# EAGLE library part TLC591X-(Q1) (library isystems-power)
TLC591x-Q1 8-Bit Constant-Current LED Sink Drivers FEATURES Qualified for Automotive Applications AEC-Q100 Qualified With the Following Results: Device Temperature Grade 1: –40°C to 125°C Ambient Operating Temperature Range Device HBM ESD Classification Level 1C Device CDM ESD Classification Level C4 Eight Constant-Current Output Channels Output Current Adjusted Through External Resistor Constant Output Current Range: 5 mA to 120 mA Constant Output Current Invariant to Load Voltage Change Open Load, Short Load, and Overtemperature Detection 256-Step Programmable Global Current Gain Excellent Output Current Accuracy: Between Channels: ≤ ±3% (Maximum) Between ICs: ≤ ±6% (Maximum) Fast Response of Output Current 30-MHz Clock Frequency Schmitt Trigger Input 3.3-V or 5-V Supply Voltage Thermal Shutdown for Overtemperature Protection Datasheet: http://www.ti.com/lit/ds/slvs814a/slvs814a.pdf
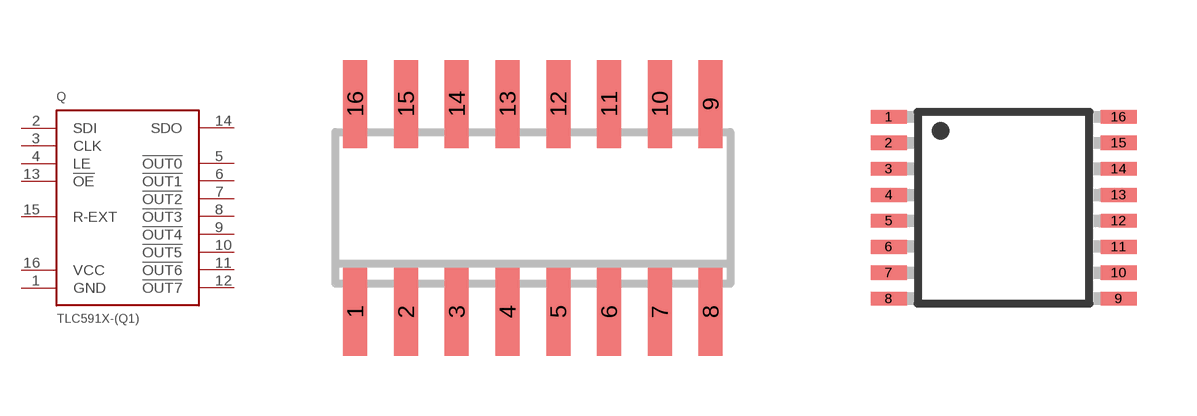
[diagram p0: symbol with the pads of SO16; footprints SO16, TSSOP16]

Designator prefix Q

## TLC591X-(Q1)IDR  [SO16]
1  GND  pwr
2  SDI  in
3  CLK  in
4  LE  in
5  !OUT0  out
6  !OUT1  out
7  !OUT2  out
8  !OUT3  out
9  !OUT4  out
10  !OUT5  out
11  !OUT6  out
12  !OUT7  out
13  !OE  in
14  SDO  out
15  R-EXT
16  VCC  pwr

## TLC591X-(Q1)IPWR  [TSSOP16]
Pads as for SO16

## Footprint SO16 (pad centres in mm)
SMALL OUTLINE INTEGRATED CIRCUIT body 3.9 mm/JEDEC MS-012AC
smd 0.6 x 2.2: 1 -4.445,-2.6; 2 -3.175,-2.6; 3 -1.905,-2.6; 4 -0.635,-2.6; 5 0.635,-2.6; 6 1.905,-2.6; 7 3.175,-2.6; 8 4.445,-2.6; 9 4.445,2.6; 10 3.175,2.6; 11 1.905,2.6; 12 0.635,2.6; 13 -0.635,2.6; 14 -1.905,2.6; 15 -3.175,2.6; 16 -4.445,2.6

## Footprint TSSOP16 (pad centres in mm)
16-Lead Thin Shrink Small Outline Package [TSSOP] (RU-16) Source: 8x ADG1408_1409.pdf
smd 0.9 x 0.35: 1 -2.875,2.275; 2 -2.875,1.625; 3 -2.875,0.975; 4 -2.875,0.325; 5 -2.875,-0.325; 6 -2.875,-0.975; 7 -2.875,-1.625; 8 -2.875,-2.275; 9 2.875,-2.275; 10 2.875,-1.625; 11 2.875,-0.975; 12 2.875,-0.325; 13 2.875,0.325; 14 2.875,0.975; 15 2.875,1.625; 16 2.875,2.275